# EAGLE library part MAX17201 (library MAX1720x_GasGauges)
MAX17201 ModelGauge m5 Fuel Gauge TDFN-14 CU Variant
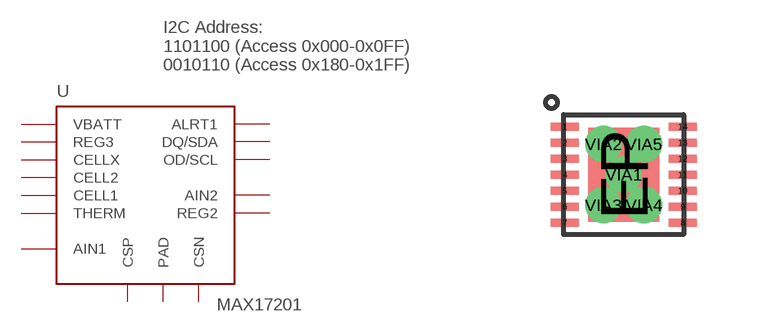
[diagram p0: symbol with the pads of TDFN-14-CU; footprint TDFN-14-CU]

Designator prefix -

## MAX17201  [TDFN-14-CU]
1  REG3
2  CSP
3  REG2
4  CSN
5  VBATT
6  CELL2
7  CELL1
8  ALRT1
9  AIN1
10  AIN2
11  OD/SCL
12  DQ/SDA
13  CELLX
14  THERM
EP  PAD
VIA1  PAD
VIA2  PAD
VIA3  PAD
VIA4  PAD
VIA5  PAD

## Footprint TDFN-14-CU (pad centres in mm)
smd 0.7 x 0.2: 1 -1.475,1.2; 2 -1.475,0.8; 3 -1.475,0.4; 4 -1.475,0; 5 -1.475,-0.4; 6 -1.475,-0.8; 7 -1.475,-1.2; 8 1.475,-1.2; 9 1.475,-0.8; 10 1.475,-0.4; 11 1.475,0; 12 1.475,0.4; 13 1.475,0.8; 14 1.475,1.2
smd 1.78 x 2.35: EP 0,0
drill 0.406 pad 0.61: VIA1 0,0; VIA2 -0.508,0.762; VIA3 -0.508,-0.762; VIA4 0.508,-0.762; VIA5 0.508,0.762